# Altium footprint library QFN_Sq_40P_Side_M.PcbLib: 1 footprints
Each footprint in its own frame and in the unit in brackets; x right, y up, seen from the top. Pads: shape width x height; smd on the part's side, far side on the other; paste and mask are expansions set on the pad; w line width, h text height; cw(c..) or ccw(c..) is an arc to the next point about the centre after c.
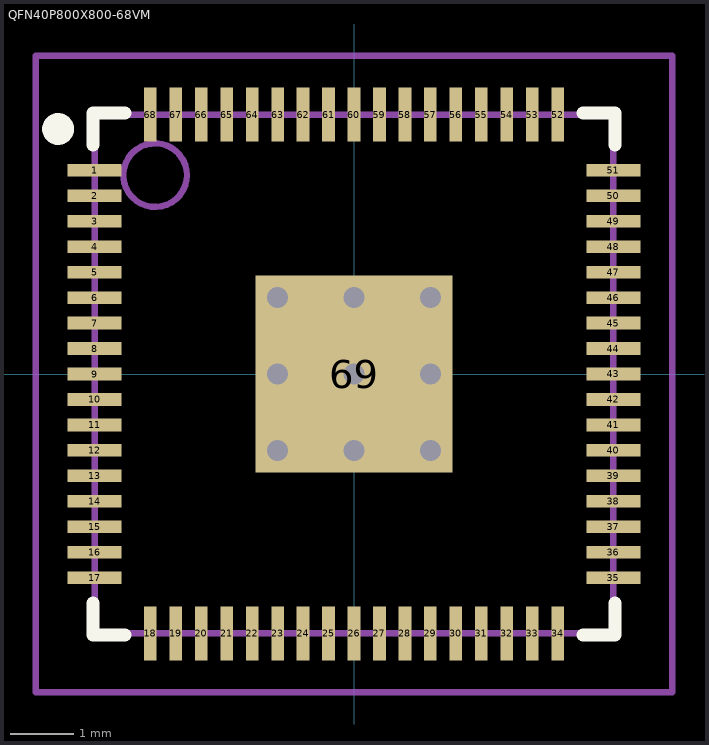
[diagram p0: the footprint, top view; thin cyan lines are the x and y axes]

## QFN40P800X800-68VM [mm] "QFN, 68-Leads, Body 8x8 mm, Pitch 0.4mm, IPC Low Density"
height 1
pads (69):
  rect 0.85x0.2 smd: 1(-4.075,3.2) 2(-4.075,2.8) 3(-4.075,2.4) 4(-4.075,2) 5(-4.075,1.6) 6(-4.075,1.2) 7(-4.075,0.8) 8(-4.075,0.4) 9(-4.075,0) 10(-4.075,-0.4) 11(-4.075,-0.8) 12(-4.075,-1.2) 13(-4.075,-1.6) 14(-4.075,-2) 15(-4.075,-2.4) 16(-4.075,-2.8) 17(-4.075,-3.2) 35(4.075,-3.2) 36(4.075,-2.8) 37(4.075,-2.4) 38(4.075,-2) 39(4.075,-1.6) 40(4.075,-1.2) 41(4.075,-0.8) 42(4.075,-0.4) 43(4.075,0) 44(4.075,0.4) 45(4.075,0.8) 46(4.075,1.2) 47(4.075,1.6) 48(4.075,2) 49(4.075,2.4) 50(4.075,2.8) 51(4.075,3.2)
  rect 0.2x0.85 smd: 18(-3.2,-4.075) 19(-2.8,-4.075) 20(-2.4,-4.075) 21(-2,-4.075) 22(-1.6,-4.075) 23(-1.2,-4.075) 24(-0.8,-4.075) 25(-0.4,-4.075) 26(0,-4.075) 27(0.4,-4.075) 28(0.8,-4.075) 29(1.2,-4.075) 30(1.6,-4.075) 31(2,-4.075) 32(2.4,-4.075) 33(2.8,-4.075) 34(3.2,-4.075) 52(3.2,4.075) 53(2.8,4.075) 54(2.4,4.075) 55(2,4.075) 56(1.6,4.075) 57(1.2,4.075) 58(0.8,4.075) 59(0.4,4.075) 60(0,4.075) 61(-0.4,4.075) 62(-0.8,4.075) 63(-1.2,4.075) 64(-1.6,4.075) 65(-2,4.075) 66(-2.4,4.075) 67(-2.8,4.075) 68(-3.2,4.075)
  rect 3.1x3.1 smd: 69(0,0)
via -1.2,1.2 diameter 0.66 hole 0.33
via 0,1.2 diameter 0.66 hole 0.33
via 1.2,1.2 diameter 0.66 hole 0.33
via -1.2,0 diameter 0.66 hole 0.33
via 0,0 diameter 0.66 hole 0.33
via 1.2,0 diameter 0.66 hole 0.33
via -1.2,-1.2 diameter 0.66 hole 0.33
via 0,-1.2 diameter 0.66 hole 0.33
via 1.2,-1.2 diameter 0.66 hole 0.33
Top Overlay:
  circle w0.25: c-4.65,3.85 r0.125
  lines w0.2: -4.1,-3.6 -4.1,-4.1 -3.6,-4.1 ; -4.1,3.6 -4.1,4.1 -3.6,4.1 ; 3.6,-4.1 4.1,-4.1 4.1,-3.6 ; 3.6,4.1 4.1,4.1 4.1,3.6
Mechanical 13:
  circle w0.1: c-3.125,3.125 r0.5
  lines w0.1: -4.075,-4.075 -4.075,4.075 4.075,4.075 4.075,-4.075 -4.075,-4.075
Mechanical 15:
  lines w0.1: -0.5,0 0.5,0 ; 0,-0.5 0,0.5 ; -5,-5 -5,5 5,5 5,-5 -5,-5
3D body: height 1, standoff 0, extent -4.075,-4.075 4.075,4.075